# Altium schematic symbol library OSTTE040104.SchLib: 1 symbol
Pins are listed as number, name and electrical type; pins without a type are passive.

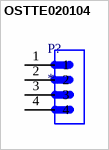
[diagram p0: symbol OSTTE020104]

## OSTTE020104
designator P?
Terminal Block 3.5mm 2pos Pcb; MP: OSTTE020104; MF: {'manufacturer': u'On Shore'}; Availability: Unavailable; Package: None; Value: *; Price: None
footprint TE_3-641209-4
pins: 1, 2, 3, 4